# EAGLE library part FE20-2 (library EspressoParts)
FEMALE HEADER
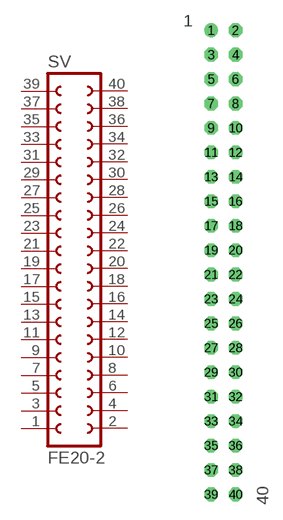
[diagram p2: symbol with the pads of FE20-2; footprint FE20-2]

Designator prefix SV

## FE20-2 (OC_FARNELL: unknown; OC_NEWARK: unknown)  [FE20-2]
1  1  pas
2  2  pas
3  3  pas
4  4  pas
5  5  pas
6  6  pas
7  7  pas
8  8  pas
9  9  pas
10  10  pas
11  11  pas
12  12  pas
13  13  pas
14  14  pas
15  15  pas
16  16  pas
17  17  pas
18  18  pas
19  19  pas
20  20  pas
21  21  pas
22  22  pas
23  23  pas
24  24  pas
25  25  pas
26  26  pas
27  27  pas
28  28  pas
29  29  pas
30  30  pas
31  31  pas
32  32  pas
33  33  pas
34  34  pas
35  35  pas
36  36  pas
37  37  pas
38  38  pas
39  3.3  pas
40  40  pas

## Footprint FE20-2 (pad centres in mm)
FEMALE HEADER
drill 0.914: 1 -13.97,12.7
drill 0.914 octagon: 2 -11.43,12.7; 3 -13.97,10.16; 4 -11.43,10.16; 5 -13.97,7.62; 6 -11.43,7.62; 7 -13.97,5.08; 8 -11.43,5.08; 9 -13.97,2.54; 10 -11.43,2.54; 11 -13.97,0; 12 -11.43,0; 13 -13.97,-2.54; 14 -11.43,-2.54; 15 -13.97,-5.08; 16 -11.43,-5.08; 17 -13.97,-7.62; 18 -11.43,-7.62; 19 -13.97,-10.16; 20 -11.43,-10.16; 21 -13.97,-12.7; 22 -11.43,-12.7; 23 -13.97,-15.24; 24 -11.43,-15.24; 25 -13.97,-17.78; 26 -11.43,-17.78; 27 -13.97,-20.32; 28 -11.43,-20.32; 29 -13.97,-22.86; 30 -11.43,-22.86; 31 -13.97,-25.4; 32 -11.43,-25.4; 33 -13.97,-27.94; 34 -11.43,-27.94; 35 -13.97,-30.48; 36 -11.43,-30.48; 37 -13.97,-33.02; 38 -11.43,-33.02; 39 -13.97,-35.56; 40 -11.43,-35.56